# Altium integrated library Linear Technology Power Management Power-Over-Ethernet (PoE) Interface Controllers.IntLib: 174 symbols (part 3 of 16)
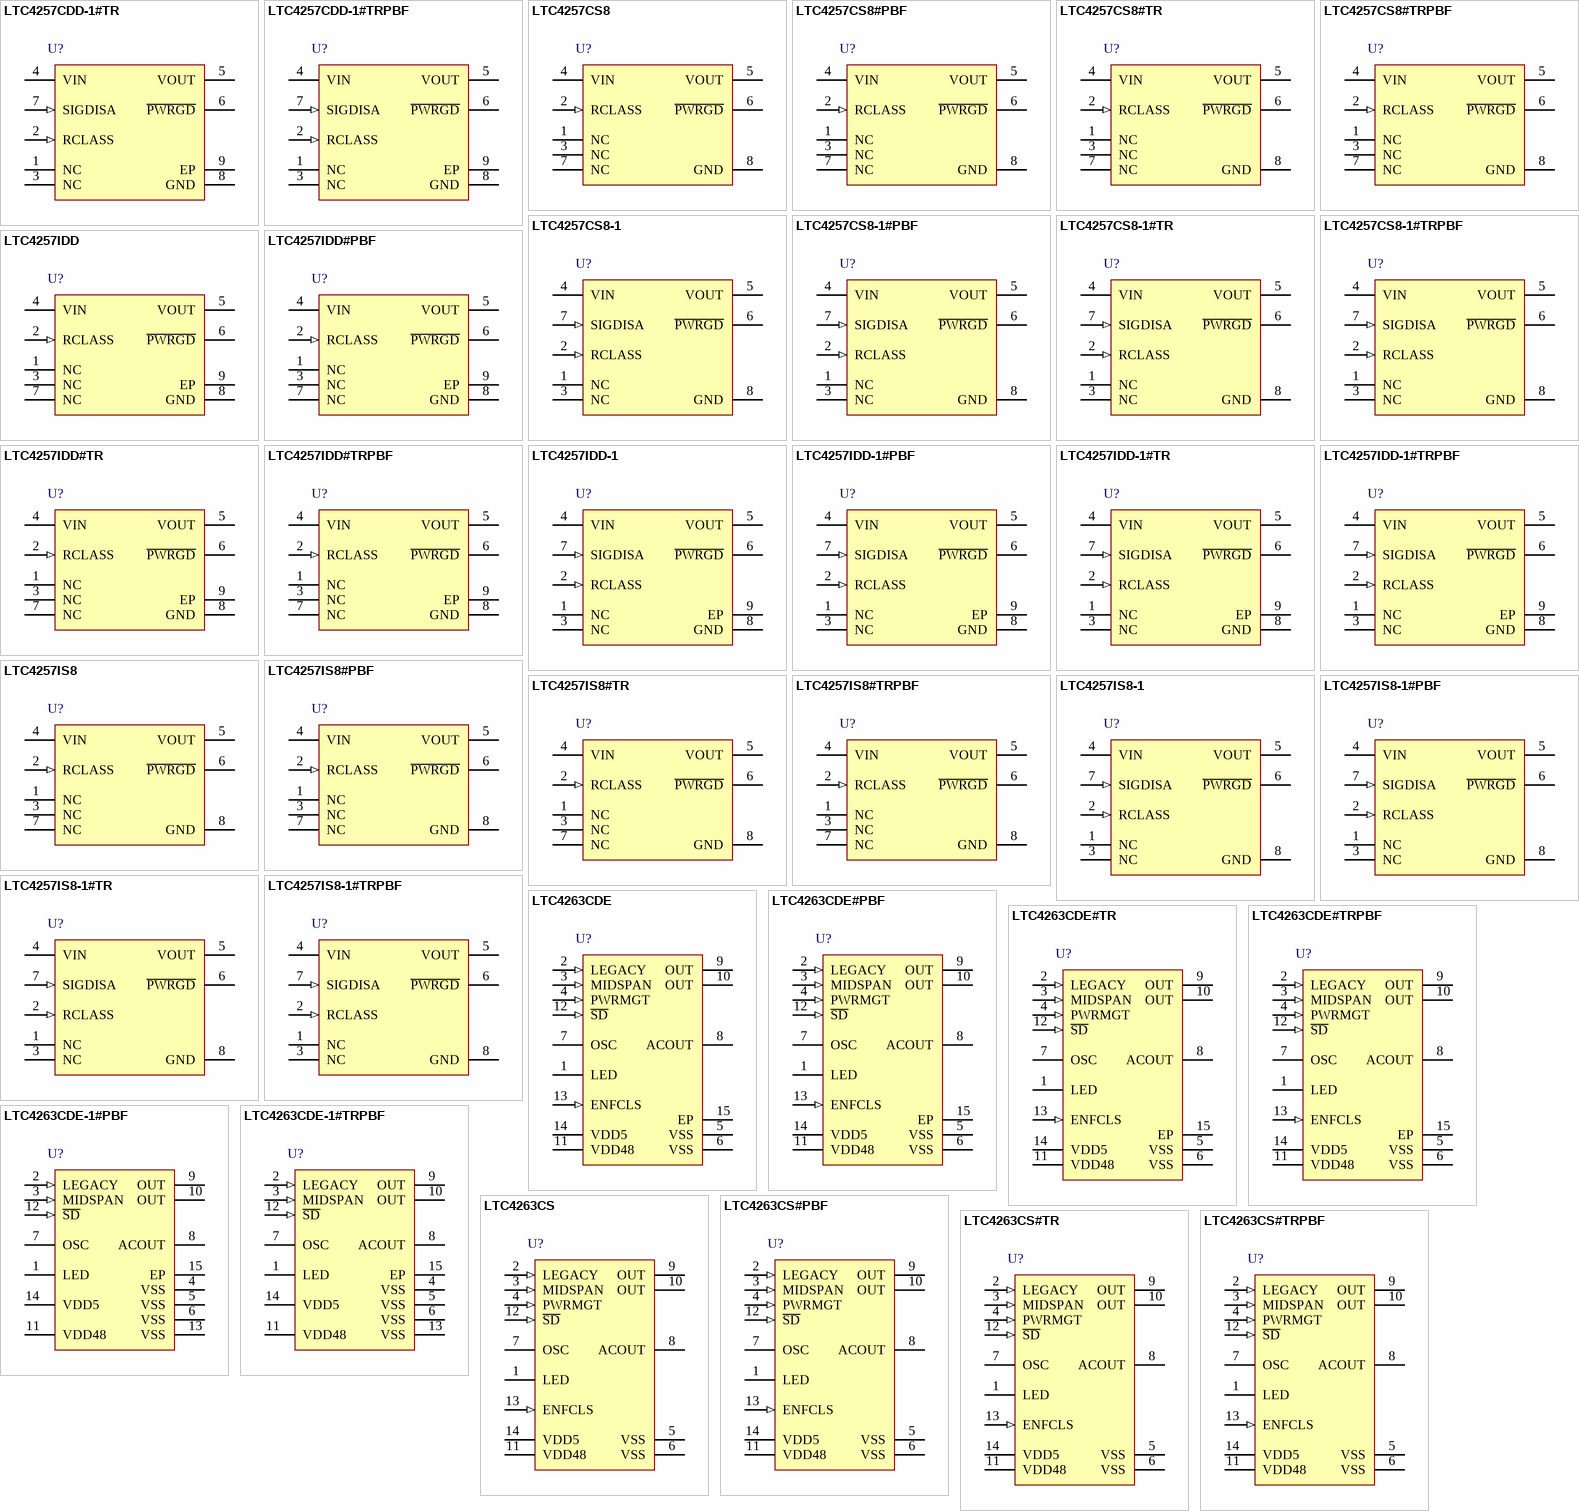
[diagram p10: symbols LTC4257CDD-1#TR to LTC4263CS#TRPBF]

## LTC4257CS8-1#TRPBF
designator U?
IEEE 802.3af PD Power Over Ethernet Interface Controller with Dual Current Limit, 8-pin SOIC (S8-8), 0 to 70 degC, Pb-Free, Tape and Reel; Manufacturer: Linear Technology; PartNumber: LTC4257CS8-1#TRPBF; Channels(#): 1; Extended Temp: C, I; I2C Interface: no; Max Power(W): 13; DatasheetVersion: Rev. B; PackageVersion: Rev. G, 03/2012; PackageReference: S8-8; PackageDescription: 8-Pin Plastic Small Outline (Narrow .150 Inch), Body 4.9 x 3.9 mm, Pitch 1.27 mm; Supplier 1: Digi-Key; Supplier Part Number 1: LTC4257CS8-1#TRPBF-ND; Packing: Tape and Reel; PoE Type: 1; PSE/PD: PD; RoHS: TRUE; Mounting Technology: Surface Mount; ComponentLink1Description: Manufacturer URL; ComponentLink1URL: http://www.linear.com/; ComponentLink2Description: Datasheet; ComponentLink2URL: http://cds.linear.com/docs/en/datasheet/42571fb.pdf; ComponentLink3Description: Package Specification; ComponentLink3URL: http://cds.linear.com/docs/en/packaging/05081610_G_SO8.pdf
footprint LT-S8-8_N (SOIC, 8-Leads, Body 5x4mm, Pitch 1.27mm, IPC Medium Density)
footprint LT-S8-8_L (SOIC, 8-Leads, Body 5x4mm, Pitch 1.27mm, IPC High Density)
footprint LT-S8-8_M (SOIC, 8-Leads, Body 5x4mm, Pitch 1.27mm, IPC Low Density)
pins: 1 NC "No Internal Connection.", 2 RCLASS (in) "Class Select Input. Used to set the current value the LTC4257-1 maintains during classification. Connect a resistor between RCLASS and VIN (see Table 2).", 3 NC "No Internal Connection.", 4 VIN (power) "Power Input. Tie to system -48V through the input diode bridge.", 5 VOUT (hiz) "Power Output. Supplies -48V to the PD load through an internal power MOSFET that limits input current. VOUT is high impedance until the input voltage rises above the turn-on UVLO threshold. Above the UVLO threshold the (See Datasheet)", 6 ~{PWRGD} (hiz) "Power Good Output, Open-Drain. Signals that the LTC4257 MOSFET is fully on. Low impedance indicates power is good. P\W\R\G\D\ is high impedance during detection, classification and in the event of a thermal overload. (See Datasheet)", 7 SIGDISA (in) "Signature Disable Input. Allows the PD to command the LTC4257-1 to present an invalid signature resistance and to remain inactive. Connecting SIGDISA to GND lowers the signature resistance to an invalid value and disables (See Datasheet)", 8 GND (power) "Ground. Tie to system ground and to power return through the input diode bridge."

## LTC4257IDD
designator U?
IEEE 802.3af PD Power Over Ethernet Interface Controller, 8-pin SON (DD-8), -40 to 85 degC; Manufacturer: Linear Technology; PartNumber: LTC4257IDD; Channels(#): 1; Extended Temp: C, I; I2C Interface: no; Max Power(W): 13; DatasheetVersion: Rev. B; PackageVersion: Jun-10; PackageReference: DD-8; PackageDescription: 8-Pin Plastic DFN, Body 3 x 3 mm, Pitch 0.5 mm; Supplier 1: Digi-Key; Supplier Part Number 1: LTC4257IDD-ND; PoE Type: 1; PSE/PD: PD; RoHS: FALSE; Mounting Technology: Surface Mount; Code_JEDEC: MO-229; ComponentLink1Description: Manufacturer URL; ComponentLink1URL: http://www.linear.com/; ComponentLink2Description: Datasheet; ComponentLink2URL: http://cds.linear.com/docs/en/datasheet/4257fb.pdf; ComponentLink3Description: Package Specification; ComponentLink3URL: http://cds.linear.com/docs/en/packaging/DFN_8_05-08-1698.pdf
footprint LT-DD-8_V (SON, 8-Leads, Body 3x3mm, Pitch 0.5mm, Thermal Pad 1.65x2.38 mm)
pins: 1 NC "No Connect.", 2 RCLASS (in) "External Class Select Input. Used to set the current the LTC4257 maintains during classification. Connect a resistor between RCLASS and VIN (see Table 2).", 3 NC "No Connect.", 4 VIN (power) "Power Input. Tie to system -48V through the input diode bridge.", 5 VOUT (hiz) "Power Output. Supplies -48V to the PD load through an internal power MOSFET that limits input current. VOUT is high impedance until the input voltage rises above the turn-on UVLO threshold. Above the UVLO threshold the (See Datasheet)", 6 ~{PWRGD} (hiz) "Power Good Output, Open-Drain. Signals that the LTC4257 MOSFET is fully on. Low impedance indicates power is good. P\W\R\G\D\ is high impedance during detection, classification and in the event of a thermal overload. (See Datasheet)", 7 NC "No Connect.", 8 GND (power) "Ground. Tie to system ground and to power return through the input diode bridge.", 9 EP

## LTC4257IDD#PBF
designator U?
IEEE 802.3af PD Power Over Ethernet Interface Controller, 8-pin SON (DD-8), -40 to 85 degC, Pb-Free; Manufacturer: Linear Technology; PartNumber: LTC4257IDD#PBF; Channels(#): 1; Extended Temp: C, I; I2C Interface: no; Max Power(W): 13; DatasheetVersion: Rev. B; PackageVersion: Jun-10; PackageReference: DD-8; PackageDescription: 8-Pin Plastic DFN, Body 3 x 3 mm, Pitch 0.5 mm; Supplier 1: Digi-Key; Supplier Part Number 1: LTC4257IDD#PBF-ND; Supplier 2: Newark; Supplier Part Number 2: 56M9080; PoE Type: 1; PSE/PD: PD; RoHS: TRUE; Mounting Technology: Surface Mount; Code_JEDEC: MO-229; ComponentLink1Description: Manufacturer URL; ComponentLink1URL: http://www.linear.com/; ComponentLink2Description: Datasheet; ComponentLink2URL: http://cds.linear.com/docs/en/datasheet/4257fb.pdf; ComponentLink3Description: Package Specification; ComponentLink3URL: http://cds.linear.com/docs/en/packaging/DFN_8_05-08-1698.pdf
footprint LT-DD-8_V (SON, 8-Leads, Body 3x3mm, Pitch 0.5mm, Thermal Pad 1.65x2.38 mm)
pins: 1 NC "No Connect.", 2 RCLASS (in) "External Class Select Input. Used to set the current the LTC4257 maintains during classification. Connect a resistor between RCLASS and VIN (see Table 2).", 3 NC "No Connect.", 4 VIN (power) "Power Input. Tie to system -48V through the input diode bridge.", 5 VOUT (hiz) "Power Output. Supplies -48V to the PD load through an internal power MOSFET that limits input current. VOUT is high impedance until the input voltage rises above the turn-on UVLO threshold. Above the UVLO threshold the (See Datasheet)", 6 ~{PWRGD} (hiz) "Power Good Output, Open-Drain. Signals that the LTC4257 MOSFET is fully on. Low impedance indicates power is good. P\W\R\G\D\ is high impedance during detection, classification and in the event of a thermal overload. (See Datasheet)", 7 NC "No Connect.", 8 GND (power) "Ground. Tie to system ground and to power return through the input diode bridge.", 9 EP

## LTC4257IDD#TR
designator U?
IEEE 802.3af PD Power Over Ethernet Interface Controller, 8-pin SON (DD-8), -40 to 85 degC, Tape and Reel; Manufacturer: Linear Technology; PartNumber: LTC4257IDD#TR; Channels(#): 1; Extended Temp: C, I; I2C Interface: no; Max Power(W): 13; DatasheetVersion: Rev. B; PackageVersion: Jun-10; PackageReference: DD-8; PackageDescription: 8-Pin Plastic DFN, Body 3 x 3 mm, Pitch 0.5 mm; Supplier 1: Digi-Key; Supplier Part Number 1: LTC4257IDD#TR-ND; Packing: Tape and Reel; PoE Type: 1; PSE/PD: PD; RoHS: FALSE; Mounting Technology: Surface Mount; Code_JEDEC: MO-229; ComponentLink1Description: Manufacturer URL; ComponentLink1URL: http://www.linear.com/; ComponentLink2Description: Datasheet; ComponentLink2URL: http://cds.linear.com/docs/en/datasheet/4257fb.pdf; ComponentLink3Description: Package Specification; ComponentLink3URL: http://cds.linear.com/docs/en/packaging/DFN_8_05-08-1698.pdf
footprint LT-DD-8_V (SON, 8-Leads, Body 3x3mm, Pitch 0.5mm, Thermal Pad 1.65x2.38 mm)
pins: 1 NC "No Connect.", 2 RCLASS (in) "External Class Select Input. Used to set the current the LTC4257 maintains during classification. Connect a resistor between RCLASS and VIN (see Table 2).", 3 NC "No Connect.", 4 VIN (power) "Power Input. Tie to system -48V through the input diode bridge.", 5 VOUT (hiz) "Power Output. Supplies -48V to the PD load through an internal power MOSFET that limits input current. VOUT is high impedance until the input voltage rises above the turn-on UVLO threshold. Above the UVLO threshold the (See Datasheet)", 6 ~{PWRGD} (hiz) "Power Good Output, Open-Drain. Signals that the LTC4257 MOSFET is fully on. Low impedance indicates power is good. P\W\R\G\D\ is high impedance during detection, classification and in the event of a thermal overload. (See Datasheet)", 7 NC "No Connect.", 8 GND (power) "Ground. Tie to system ground and to power return through the input diode bridge.", 9 EP

## LTC4257IDD#TRPBF
designator U?
IEEE 802.3af PD Power Over Ethernet Interface Controller, 8-pin SON (DD-8), -40 to 85 degC, Pb-Free, Tape and Reel; Manufacturer: Linear Technology; PartNumber: LTC4257IDD#TRPBF; Channels(#): 1; Extended Temp: C, I; I2C Interface: no; Max Power(W): 13; DatasheetVersion: Rev. B; PackageVersion: Jun-10; PackageReference: DD-8; PackageDescription: 8-Pin Plastic DFN, Body 3 x 3 mm, Pitch 0.5 mm; Supplier 1: Digi-Key; Supplier Part Number 1: LTC4257IDD#TRPBF-ND; Packing: Tape and Reel; PoE Type: 1; PSE/PD: PD; RoHS: TRUE; Mounting Technology: Surface Mount; Code_JEDEC: MO-229; ComponentLink1Description: Manufacturer URL; ComponentLink1URL: http://www.linear.com/; ComponentLink2Description: Datasheet; ComponentLink2URL: http://cds.linear.com/docs/en/datasheet/4257fb.pdf; ComponentLink3Description: Package Specification; ComponentLink3URL: http://cds.linear.com/docs/en/packaging/DFN_8_05-08-1698.pdf
footprint LT-DD-8_V (SON, 8-Leads, Body 3x3mm, Pitch 0.5mm, Thermal Pad 1.65x2.38 mm)
pins: 1 NC "No Connect.", 2 RCLASS (in) "External Class Select Input. Used to set the current the LTC4257 maintains during classification. Connect a resistor between RCLASS and VIN (see Table 2).", 3 NC "No Connect.", 4 VIN (power) "Power Input. Tie to system -48V through the input diode bridge.", 5 VOUT (hiz) "Power Output. Supplies -48V to the PD load through an internal power MOSFET that limits input current. VOUT is high impedance until the input voltage rises above the turn-on UVLO threshold. Above the UVLO threshold the (See Datasheet)", 6 ~{PWRGD} (hiz) "Power Good Output, Open-Drain. Signals that the LTC4257 MOSFET is fully on. Low impedance indicates power is good. P\W\R\G\D\ is high impedance during detection, classification and in the event of a thermal overload. (See Datasheet)", 7 NC "No Connect.", 8 GND (power) "Ground. Tie to system ground and to power return through the input diode bridge.", 9 EP

## LTC4257IDD-1
designator U?
IEEE 802.3af PD Power Over Ethernet Interface Controller with Dual Current Limit, 8-pin SON (DD-8), -40 to 85 degC; Manufacturer: Linear Technology; PartNumber: LTC4257IDD-1; Channels(#): 1; Extended Temp: C, I; I2C Interface: no; Max Power(W): 13; DatasheetVersion: Rev. B; PackageVersion: Jun-10; PackageReference: DD-8; PackageDescription: 8-Pin Plastic DFN, Body 3 x 3 mm, Pitch 0.5 mm; Supplier 1: Digi-Key; Supplier Part Number 1: LTC4257IDD-1-ND; PoE Type: 1; PSE/PD: PD; RoHS: FALSE; Mounting Technology: Surface Mount; Code_JEDEC: MO-229; ComponentLink1Description: Manufacturer URL; ComponentLink1URL: http://www.linear.com/; ComponentLink2Description: Datasheet; ComponentLink2URL: http://cds.linear.com/docs/en/datasheet/42571fb.pdf; ComponentLink3Description: Package Specification; ComponentLink3URL: http://cds.linear.com/docs/en/packaging/DFN_8_05-08-1698.pdf
footprint LT-DD-8_V (SON, 8-Leads, Body 3x3mm, Pitch 0.5mm, Thermal Pad 1.65x2.38 mm)
pins: 1 NC "No Internal Connection.", 2 RCLASS (in) "Class Select Input. Used to set the current value the LTC4257-1 maintains during classification. Connect a resistor between RCLASS and VIN (see Table 2).", 3 NC "No Internal Connection.", 4 VIN (power) "Power Input. Tie to system - 48V through the input diode bridge.", 5 VOUT (hiz) "Power Output. Supplies -48V to the PD load through an internal power MOSFET that limits input current. VOUT is high impedance until the input voltage rises above the turn-on UVLO threshold. Above the UVLO threshold the (See Datasheet)", 6 ~{PWRGD} (hiz) "Power Good Output, Open-Drain. Signals that the LTC4257-1 MOSFET is fully on. Low impedance indicates power is good. P\W\R\G\D\ is high impedance during detection, classification and in the event of a thermal overload. (See Datasheet)", 7 SIGDISA (in) "Signature Disable Input. Allows the PD to command the LTC4257-1 to present an invalid signature resistance and to remain inactive. Connecting SIGDISA to GND lowers the signature resistance to an invalid value and disables (See Datasheet)", 8 GND (power) "Ground. Tie to system ground and to power return through the input diode bridge.", 9 EP

## LTC4257IDD-1#PBF
designator U?
IEEE 802.3af PD Power Over Ethernet Interface Controller with Dual Current Limit, 8-pin SON (DD-8), -40 to 85 degC, Pb-Free; Manufacturer: Linear Technology; PartNumber: LTC4257IDD-1#PBF; Channels(#): 1; Extended Temp: C, I; I2C Interface: no; Max Power(W): 13; DatasheetVersion: Rev. B; PackageVersion: Jun-10; PackageReference: DD-8; PackageDescription: 8-Pin Plastic DFN, Body 3 x 3 mm, Pitch 0.5 mm; Supplier 1: Digi-Key; Supplier Part Number 1: LTC4257IDD-1#PBF-ND; PoE Type: 1; PSE/PD: PD; RoHS: TRUE; Mounting Technology: Surface Mount; Code_JEDEC: MO-229; ComponentLink1Description: Manufacturer URL; ComponentLink1URL: http://www.linear.com/; ComponentLink2Description: Datasheet; ComponentLink2URL: http://cds.linear.com/docs/en/datasheet/42571fb.pdf; ComponentLink3Description: Package Specification; ComponentLink3URL: http://cds.linear.com/docs/en/packaging/DFN_8_05-08-1698.pdf
footprint LT-DD-8_V (SON, 8-Leads, Body 3x3mm, Pitch 0.5mm, Thermal Pad 1.65x2.38 mm)
pins: 1 NC "No Internal Connection.", 2 RCLASS (in) "Class Select Input. Used to set the current value the LTC4257-1 maintains during classification. Connect a resistor between RCLASS and VIN (see Table 2).", 3 NC "No Internal Connection.", 4 VIN (power) "Power Input. Tie to system - 48V through the input diode bridge.", 5 VOUT (hiz) "Power Output. Supplies -48V to the PD load through an internal power MOSFET that limits input current. VOUT is high impedance until the input voltage rises above the turn-on UVLO threshold. Above the UVLO threshold the (See Datasheet)", 6 ~{PWRGD} (hiz) "Power Good Output, Open-Drain. Signals that the LTC4257-1 MOSFET is fully on. Low impedance indicates power is good. P\W\R\G\D\ is high impedance during detection, classification and in the event of a thermal overload. (See Datasheet)", 7 SIGDISA (in) "Signature Disable Input. Allows the PD to command the LTC4257-1 to present an invalid signature resistance and to remain inactive. Connecting SIGDISA to GND lowers the signature resistance to an invalid value and disables (See Datasheet)", 8 GND (power) "Ground. Tie to system ground and to power return through the input diode bridge.", 9 EP

## LTC4257IDD-1#TR
designator U?
IEEE 802.3af PD Power Over Ethernet Interface Controller with Dual Current Limit, 8-pin SON (DD-8), -40 to 85 degC, Tape and Reel; Manufacturer: Linear Technology; PartNumber: LTC4257IDD-1#TR; Channels(#): 1; Extended Temp: C, I; I2C Interface: no; Max Power(W): 13; DatasheetVersion: Rev. B; PackageVersion: Jun-10; PackageReference: DD-8; PackageDescription: 8-Pin Plastic DFN, Body 3 x 3 mm, Pitch 0.5 mm; Supplier 1: Digi-Key; Supplier Part Number 1: LTC4257IDD-1#TR-ND; Packing: Tape and Reel; PoE Type: 1; PSE/PD: PD; RoHS: FALSE; Mounting Technology: Surface Mount; Code_JEDEC: MO-229; ComponentLink1Description: Manufacturer URL; ComponentLink1URL: http://www.linear.com/; ComponentLink2Description: Datasheet; ComponentLink2URL: http://cds.linear.com/docs/en/datasheet/42571fb.pdf; ComponentLink3Description: Package Specification; ComponentLink3URL: http://cds.linear.com/docs/en/packaging/DFN_8_05-08-1698.pdf
footprint LT-DD-8_V (SON, 8-Leads, Body 3x3mm, Pitch 0.5mm, Thermal Pad 1.65x2.38 mm)
pins: 1 NC "No Internal Connection.", 2 RCLASS (in) "Class Select Input. Used to set the current value the LTC4257-1 maintains during classification. Connect a resistor between RCLASS and VIN (see Table 2).", 3 NC "No Internal Connection.", 4 VIN (power) "Power Input. Tie to system - 48V through the input diode bridge.", 5 VOUT (hiz) "Power Output. Supplies -48V to the PD load through an internal power MOSFET that limits input current. VOUT is high impedance until the input voltage rises above the turn-on UVLO threshold. Above the UVLO threshold the (See Datasheet)", 6 ~{PWRGD} (hiz) "Power Good Output, Open-Drain. Signals that the LTC4257-1 MOSFET is fully on. Low impedance indicates power is good. P\W\R\G\D\ is high impedance during detection, classification and in the event of a thermal overload. (See Datasheet)", 7 SIGDISA (in) "Signature Disable Input. Allows the PD to command the LTC4257-1 to present an invalid signature resistance and to remain inactive. Connecting SIGDISA to GND lowers the signature resistance to an invalid value and disables (See Datasheet)", 8 GND (power) "Ground. Tie to system ground and to power return through the input diode bridge.", 9 EP

## LTC4257IDD-1#TRPBF
designator U?
IEEE 802.3af PD Power Over Ethernet Interface Controller with Dual Current Limit, 8-pin SON (DD-8), -40 to 85 degC, Pb-Free, Tape and Reel; Manufacturer: Linear Technology; PartNumber: LTC4257IDD-1#TRPBF; Channels(#): 1; Extended Temp: C, I; I2C Interface: no; Max Power(W): 13; DatasheetVersion: Rev. B; PackageVersion: Jun-10; PackageReference: DD-8; PackageDescription: 8-Pin Plastic DFN, Body 3 x 3 mm, Pitch 0.5 mm; Supplier 1: Digi-Key; Supplier Part Number 1: LTC4257IDD-1#TRPBF-ND; Packing: Tape and Reel; PoE Type: 1; PSE/PD: PD; RoHS: TRUE; Mounting Technology: Surface Mount; Code_JEDEC: MO-229; ComponentLink1Description: Manufacturer URL; ComponentLink1URL: http://www.linear.com/; ComponentLink2Description: Datasheet; ComponentLink2URL: http://cds.linear.com/docs/en/datasheet/42571fb.pdf; ComponentLink3Description: Package Specification; ComponentLink3URL: http://cds.linear.com/docs/en/packaging/DFN_8_05-08-1698.pdf
footprint LT-DD-8_V (SON, 8-Leads, Body 3x3mm, Pitch 0.5mm, Thermal Pad 1.65x2.38 mm)
pins: 1 NC "No Internal Connection.", 2 RCLASS (in) "Class Select Input. Used to set the current value the LTC4257-1 maintains during classification. Connect a resistor between RCLASS and VIN (see Table 2).", 3 NC "No Internal Connection.", 4 VIN (power) "Power Input. Tie to system - 48V through the input diode bridge.", 5 VOUT (hiz) "Power Output. Supplies -48V to the PD load through an internal power MOSFET that limits input current. VOUT is high impedance until the input voltage rises above the turn-on UVLO threshold. Above the UVLO threshold the (See Datasheet)", 6 ~{PWRGD} (hiz) "Power Good Output, Open-Drain. Signals that the LTC4257-1 MOSFET is fully on. Low impedance indicates power is good. P\W\R\G\D\ is high impedance during detection, classification and in the event of a thermal overload. (See Datasheet)", 7 SIGDISA (in) "Signature Disable Input. Allows the PD to command the LTC4257-1 to present an invalid signature resistance and to remain inactive. Connecting SIGDISA to GND lowers the signature resistance to an invalid value and disables (See Datasheet)", 8 GND (power) "Ground. Tie to system ground and to power return through the input diode bridge.", 9 EP

## LTC4257IS8
designator U?
IEEE 802.3af PD Power Over Ethernet Interface Controller, 8-pin SOIC (S8-8), -40 to 85 degC; Manufacturer: Linear Technology; PartNumber: LTC4257IS8; Channels(#): 1; Extended Temp: C, I; I2C Interface: no; Max Power(W): 13; DatasheetVersion: Rev. B; PackageVersion: Rev. G, 03/2012; PackageReference: S8-8; PackageDescription: 8-Pin Plastic Small Outline (Narrow .150 Inch), Body 4.9 x 3.9 mm, Pitch 1.27 mm; Supplier 1: Digi-Key; Supplier Part Number 1: LTC4257IS8-ND; PoE Type: 1; PSE/PD: PD; RoHS: FALSE; Mounting Technology: Surface Mount; ComponentLink1Description: Manufacturer URL; ComponentLink1URL: http://www.linear.com/; ComponentLink2Description: Datasheet; ComponentLink2URL: http://cds.linear.com/docs/en/datasheet/4257fb.pdf; ComponentLink3Description: Package Specification; ComponentLink3URL: http://cds.linear.com/docs/en/packaging/05081610_G_SO8.pdf
footprint LT-S8-8_N (SOIC, 8-Leads, Body 5x4mm, Pitch 1.27mm, IPC Medium Density)
footprint LT-S8-8_L (SOIC, 8-Leads, Body 5x4mm, Pitch 1.27mm, IPC High Density)
footprint LT-S8-8_M (SOIC, 8-Leads, Body 5x4mm, Pitch 1.27mm, IPC Low Density)
pins: 1 NC "No Connect.", 2 RCLASS (in) "External Class Select Input. Used to set the current the LTC4257 maintains during classification. Connect a resistor between RCLASS and VIN (see Table 2).", 3 NC "No Connect.", 4 VIN (power) "Power Input. Tie to system - 48V through the input diode bridge.", 5 VOUT (hiz) "Power Output. Supplies -48V to the PD load through an internal power MOSFET that limits input current. VOUT is high impedance until the input voltage rises above the turn-on UVLO threshold. Above the UVLO threshold the (See Datasheet)", 6 ~{PWRGD} (hiz) "Power Good Output, Open-Drain. Signals that the LTC4257 MOSFET is fully on. Low impedance indicates power is good. P\W\R\G\D\ is high impedance during detection, classification and in the event of a thermal overload. (See Datasheet)", 7 NC "No Connect.", 8 GND (power) "Ground. Tie to system ground and to power return through the input diode bridge."

## LTC4257IS8#PBF
designator U?
IEEE 802.3af PD Power Over Ethernet Interface Controller, 8-pin SOIC (S8-8), -40 to 85 degC, Pb-Free; Manufacturer: Linear Technology; PartNumber: LTC4257IS8#PBF; Channels(#): 1; Extended Temp: C, I; I2C Interface: no; Max Power(W): 13; DatasheetVersion: Rev. B; PackageVersion: Rev. G, 03/2012; PackageReference: S8-8; PackageDescription: 8-Pin Plastic Small Outline (Narrow .150 Inch), Body 4.9 x 3.9 mm, Pitch 1.27 mm; Supplier 1: Digi-Key; Supplier Part Number 1: LTC4257IS8#PBF-ND; Supplier 2: Farnell; Supplier Part Number 2: 1663729; Supplier 3: Newark; Supplier Part Number 3: 56M9088; PoE Type: 1; PSE/PD: PD; RoHS: TRUE; Mounting Technology: Surface Mount; ComponentLink1Description: Manufacturer URL; ComponentLink1URL: http://www.linear.com/; ComponentLink2Description: Datasheet; ComponentLink2URL: http://cds.linear.com/docs/en/datasheet/4257fb.pdf; ComponentLink3Description: Package Specification; ComponentLink3URL: http://cds.linear.com/docs/en/packaging/05081610_G_SO8.pdf
footprint LT-S8-8_N (SOIC, 8-Leads, Body 5x4mm, Pitch 1.27mm, IPC Medium Density)
footprint LT-S8-8_L (SOIC, 8-Leads, Body 5x4mm, Pitch 1.27mm, IPC High Density)
footprint LT-S8-8_M (SOIC, 8-Leads, Body 5x4mm, Pitch 1.27mm, IPC Low Density)
pins: 1 NC "No Connect.", 2 RCLASS (in) "External Class Select Input. Used to set the current the LTC4257 maintains during classification. Connect a resistor between RCLASS and VIN (see Table 2).", 3 NC "No Connect.", 4 VIN (power) "Power Input. Tie to system - 48V through the input diode bridge.", 5 VOUT (hiz) "Power Output. Supplies -48V to the PD load through an internal power MOSFET that limits input current. VOUT is high impedance until the input voltage rises above the turn-on UVLO threshold. Above the UVLO threshold the (See Datasheet)", 6 ~{PWRGD} (hiz) "Power Good Output, Open-Drain. Signals that the LTC4257 MOSFET is fully on. Low impedance indicates power is good. P\W\R\G\D\ is high impedance during detection, classification and in the event of a thermal overload. (See Datasheet)", 7 NC "No Connect.", 8 GND (power) "Ground. Tie to system ground and to power return through the input diode bridge."

## LTC4257IS8#TR
designator U?
IEEE 802.3af PD Power Over Ethernet Interface Controller, 8-pin SOIC (S8-8), -40 to 85 degC, Tape and Reel; Manufacturer: Linear Technology; PartNumber: LTC4257IS8#TR; Channels(#): 1; Extended Temp: C, I; I2C Interface: no; Max Power(W): 13; DatasheetVersion: Rev. B; PackageVersion: Rev. G, 03/2012; PackageReference: S8-8; PackageDescription: 8-Pin Plastic Small Outline (Narrow .150 Inch), Body 4.9 x 3.9 mm, Pitch 1.27 mm; Supplier 1: Digi-Key; Supplier Part Number 1: LTC4257IS8#TR-ND; Packing: Tape and Reel; PoE Type: 1; PSE/PD: PD; RoHS: FALSE; Mounting Technology: Surface Mount; ComponentLink1Description: Manufacturer URL; ComponentLink1URL: http://www.linear.com/; ComponentLink2Description: Datasheet; ComponentLink2URL: http://cds.linear.com/docs/en/datasheet/4257fb.pdf; ComponentLink3Description: Package Specification; ComponentLink3URL: http://cds.linear.com/docs/en/packaging/05081610_G_SO8.pdf
footprint LT-S8-8_N (SOIC, 8-Leads, Body 5x4mm, Pitch 1.27mm, IPC Medium Density)
footprint LT-S8-8_L (SOIC, 8-Leads, Body 5x4mm, Pitch 1.27mm, IPC High Density)
footprint LT-S8-8_M (SOIC, 8-Leads, Body 5x4mm, Pitch 1.27mm, IPC Low Density)
pins: 1 NC "No Connect.", 2 RCLASS (in) "External Class Select Input. Used to set the current the LTC4257 maintains during classification. Connect a resistor between RCLASS and VIN (see Table 2).", 3 NC "No Connect.", 4 VIN (power) "Power Input. Tie to system - 48V through the input diode bridge.", 5 VOUT (hiz) "Power Output. Supplies -48V to the PD load through an internal power MOSFET that limits input current. VOUT is high impedance until the input voltage rises above the turn-on UVLO threshold. Above the UVLO threshold the (See Datasheet)", 6 ~{PWRGD} (hiz) "Power Good Output, Open-Drain. Signals that the LTC4257 MOSFET is fully on. Low impedance indicates power is good. P\W\R\G\D\ is high impedance during detection, classification and in the event of a thermal overload. (See Datasheet)", 7 NC "No Connect.", 8 GND (power) "Ground. Tie to system ground and to power return through the input diode bridge."

## LTC4257IS8#TRPBF
designator U?
IEEE 802.3af PD Power Over Ethernet Interface Controller, 8-pin SOIC (S8-8), -40 to 85 degC, Pb-Free, Tape and Reel; Manufacturer: Linear Technology; PartNumber: LTC4257IS8#TRPBF; Channels(#): 1; Extended Temp: C, I; I2C Interface: no; Max Power(W): 13; DatasheetVersion: Rev. B; PackageVersion: Rev. G, 03/2012; PackageReference: S8-8; PackageDescription: 8-Pin Plastic Small Outline (Narrow .150 Inch), Body 4.9 x 3.9 mm, Pitch 1.27 mm; Supplier 1: Digi-Key; Supplier Part Number 1: LTC4257IS8#TRPBF-ND; Supplier 2: Newark; Supplier Part Number 2: 56M9090; Packing: Tape and Reel; PoE Type: 1; PSE/PD: PD; RoHS: TRUE; Mounting Technology: Surface Mount; ComponentLink1Description: Manufacturer URL; ComponentLink1URL: http://www.linear.com/; ComponentLink2Description: Datasheet; ComponentLink2URL: http://cds.linear.com/docs/en/datasheet/4257fb.pdf; ComponentLink3Description: Package Specification; ComponentLink3URL: http://cds.linear.com/docs/en/packaging/05081610_G_SO8.pdf
footprint LT-S8-8_N (SOIC, 8-Leads, Body 5x4mm, Pitch 1.27mm, IPC Medium Density)
footprint LT-S8-8_L (SOIC, 8-Leads, Body 5x4mm, Pitch 1.27mm, IPC High Density)
footprint LT-S8-8_M (SOIC, 8-Leads, Body 5x4mm, Pitch 1.27mm, IPC Low Density)
pins: 1 NC "No Connect.", 2 RCLASS (in) "External Class Select Input. Used to set the current the LTC4257 maintains during classification. Connect a resistor between RCLASS and VIN (see Table 2).", 3 NC "No Connect.", 4 VIN (power) "Power Input. Tie to system - 48V through the input diode bridge.", 5 VOUT (hiz) "Power Output. Supplies -48V to the PD load through an internal power MOSFET that limits input current. VOUT is high impedance until the input voltage rises above the turn-on UVLO threshold. Above the UVLO threshold the (See Datasheet)", 6 ~{PWRGD} (hiz) "Power Good Output, Open-Drain. Signals that the LTC4257 MOSFET is fully on. Low impedance indicates power is good. P\W\R\G\D\ is high impedance during detection, classification and in the event of a thermal overload. (See Datasheet)", 7 NC "No Connect.", 8 GND (power) "Ground. Tie to system ground and to power return through the input diode bridge."

## LTC4257IS8-1
designator U?
IEEE 802.3af PD Power Over Ethernet Interface Controller with Dual Current Limit, 8-pin SOIC (S8-8), -40 to 85 degC; Manufacturer: Linear Technology; PartNumber: LTC4257IS8-1; Channels(#): 1; Extended Temp: C, I; I2C Interface: no; Max Power(W): 13; DatasheetVersion: Rev. B; PackageVersion: Rev. G, 03/2012; PackageReference: S8-8; PackageDescription: 8-Pin Plastic Small Outline (Narrow .150 Inch), Body 4.9 x 3.9 mm, Pitch 1.27 mm; Supplier 1: Digi-Key; Supplier Part Number 1: LTC4257IS8-1-ND; PoE Type: 1; PSE/PD: PD; RoHS: FALSE; Mounting Technology: Surface Mount; ComponentLink1Description: Manufacturer URL; ComponentLink1URL: http://www.linear.com/; ComponentLink2Description: Datasheet; ComponentLink2URL: http://cds.linear.com/docs/en/datasheet/42571fb.pdf; ComponentLink3Description: Package Specification; ComponentLink3URL: http://cds.linear.com/docs/en/packaging/05081610_G_SO8.pdf
footprint LT-S8-8_N (SOIC, 8-Leads, Body 5x4mm, Pitch 1.27mm, IPC Medium Density)
footprint LT-S8-8_L (SOIC, 8-Leads, Body 5x4mm, Pitch 1.27mm, IPC High Density)
footprint LT-S8-8_M (SOIC, 8-Leads, Body 5x4mm, Pitch 1.27mm, IPC Low Density)
pins: 1 NC "No Internal Connection.", 2 RCLASS (in) "Class Select Input. Used to set the current value the LTC4257-1 maintains during classification. Connect a resistor between RCLASS and VIN (see Table 2).", 3 NC "No Internal Connection.", 4 VIN (power) "Power Input. Tie to system -48V through the input diode bridge.", 5 VOUT (hiz) "Power Output. Supplies -48V to the PD load through an internal power MOSFET that limits input current. VOUT is high impedance until the input voltage rises above the turn-on UVLO threshold. Above the UVLO threshold the (See Datasheet)", 6 ~{PWRGD} (hiz) "Power Good Output, Open-Drain. Signals that the LTC4257 MOSFET is fully on. Low impedance indicates power is good. P\W\R\G\D\ is high impedance during detection, classification and in the event of a thermal overload. (See Datasheet)", 7 SIGDISA (in) "Signature Disable Input. Allows the PD to command the LTC4257-1 to present an invalid signature resistance and to remain inactive. Connecting SIGDISA to GND lowers the signature resistance to an invalid value and disables (See Datasheet)", 8 GND (power) "Ground. Tie to system ground and to power return through the input diode bridge."

## LTC4257IS8-1#PBF
designator U?
IEEE 802.3af PD Power Over Ethernet Interface Controller with Dual Current Limit, 8-pin SOIC (S8-8), -40 to 85 degC, Pb-Free; Manufacturer: Linear Technology; PartNumber: LTC4257IS8-1#PBF; Channels(#): 1; Extended Temp: C, I; I2C Interface: no; Max Power(W): 13; DatasheetVersion: Rev. B; PackageVersion: Rev. G, 03/2012; PackageReference: S8-8; PackageDescription: 8-Pin Plastic Small Outline (Narrow .150 Inch), Body 4.9 x 3.9 mm, Pitch 1.27 mm; Supplier 1: Digi-Key; Supplier Part Number 1: LTC4257IS8-1#PBF-ND; PoE Type: 1; PSE/PD: PD; RoHS: TRUE; Mounting Technology: Surface Mount; ComponentLink1Description: Manufacturer URL; ComponentLink1URL: http://www.linear.com/; ComponentLink2Description: Datasheet; ComponentLink2URL: http://cds.linear.com/docs/en/datasheet/42571fb.pdf; ComponentLink3Description: Package Specification; ComponentLink3URL: http://cds.linear.com/docs/en/packaging/05081610_G_SO8.pdf
footprint LT-S8-8_N (SOIC, 8-Leads, Body 5x4mm, Pitch 1.27mm, IPC Medium Density)
footprint LT-S8-8_L (SOIC, 8-Leads, Body 5x4mm, Pitch 1.27mm, IPC High Density)
footprint LT-S8-8_M (SOIC, 8-Leads, Body 5x4mm, Pitch 1.27mm, IPC Low Density)
pins: 1 NC "No Internal Connection.", 2 RCLASS (in) "Class Select Input. Used to set the current value the LTC4257-1 maintains during classification. Connect a resistor between RCLASS and VIN (see Table 2).", 3 NC "No Internal Connection.", 4 VIN (power) "Power Input. Tie to system -48V through the input diode bridge.", 5 VOUT (hiz) "Power Output. Supplies -48V to the PD load through an internal power MOSFET that limits input current. VOUT is high impedance until the input voltage rises above the turn-on UVLO threshold. Above the UVLO threshold the (See Datasheet)", 6 ~{PWRGD} (hiz) "Power Good Output, Open-Drain. Signals that the LTC4257 MOSFET is fully on. Low impedance indicates power is good. P\W\R\G\D\ is high impedance during detection, classification and in the event of a thermal overload. (See Datasheet)", 7 SIGDISA (in) "Signature Disable Input. Allows the PD to command the LTC4257-1 to present an invalid signature resistance and to remain inactive. Connecting SIGDISA to GND lowers the signature resistance to an invalid value and disables (See Datasheet)", 8 GND (power) "Ground. Tie to system ground and to power return through the input diode bridge."

## LTC4257IS8-1#TR
designator U?
IEEE 802.3af PD Power Over Ethernet Interface Controller with Dual Current Limit, 8-pin SOIC (S8-8), -40 to 85 degC, Tape and Reel; Manufacturer: Linear Technology; PartNumber: LTC4257IS8-1#TR; Channels(#): 1; Extended Temp: C, I; I2C Interface: no; Max Power(W): 13; DatasheetVersion: Rev. B; PackageVersion: Rev. G, 03/2012; PackageReference: S8-8; PackageDescription: 8-Pin Plastic Small Outline (Narrow .150 Inch), Body 4.9 x 3.9 mm, Pitch 1.27 mm; Supplier 1: Digi-Key; Supplier Part Number 1: LTC4257IS8-1#TR-ND; Packing: Tape and Reel; PoE Type: 1; PSE/PD: PD; RoHS: FALSE; Mounting Technology: Surface Mount; ComponentLink1Description: Manufacturer URL; ComponentLink1URL: http://www.linear.com/; ComponentLink2Description: Datasheet; ComponentLink2URL: http://cds.linear.com/docs/en/datasheet/42571fb.pdf; ComponentLink3Description: Package Specification; ComponentLink3URL: http://cds.linear.com/docs/en/packaging/05081610_G_SO8.pdf
footprint LT-S8-8_N (SOIC, 8-Leads, Body 5x4mm, Pitch 1.27mm, IPC Medium Density)
footprint LT-S8-8_L (SOIC, 8-Leads, Body 5x4mm, Pitch 1.27mm, IPC High Density)
footprint LT-S8-8_M (SOIC, 8-Leads, Body 5x4mm, Pitch 1.27mm, IPC Low Density)
pins: 1 NC "No Internal Connection.", 2 RCLASS (in) "Class Select Input. Used to set the current value the LTC4257-1 maintains during classification. Connect a resistor between RCLASS and VIN (see Table 2).", 3 NC "No Internal Connection.", 4 VIN (power) "Power Input. Tie to system -48V through the input diode bridge.", 5 VOUT (hiz) "Power Output. Supplies -48V to the PD load through an internal power MOSFET that limits input current. VOUT is high impedance until the input voltage rises above the turn-on UVLO threshold. Above the UVLO threshold the (See Datasheet)", 6 ~{PWRGD} (hiz) "Power Good Output, Open-Drain. Signals that the LTC4257 MOSFET is fully on. Low impedance indicates power is good. P\W\R\G\D\ is high impedance during detection, classification and in the event of a thermal overload. (See Datasheet)", 7 SIGDISA (in) "Signature Disable Input. Allows the PD to command the LTC4257-1 to present an invalid signature resistance and to remain inactive. Connecting SIGDISA to GND lowers the signature resistance to an invalid value and disables (See Datasheet)", 8 GND (power) "Ground. Tie to system ground and to power return through the input diode bridge."

## LTC4257IS8-1#TRPBF
designator U?
IEEE 802.3af PD Power Over Ethernet Interface Controller with Dual Current Limit, 8-pin SOIC (S8-8), -40 to 85 degC, Pb-Free, Tape and Reel; Manufacturer: Linear Technology; PartNumber: LTC4257IS8-1#TRPBF; Channels(#): 1; Extended Temp: C, I; I2C Interface: no; Max Power(W): 13; DatasheetVersion: Rev. B; PackageVersion: Rev. G, 03/2012; PackageReference: S8-8; PackageDescription: 8-Pin Plastic Small Outline (Narrow .150 Inch), Body 4.9 x 3.9 mm, Pitch 1.27 mm; Supplier 1: Digi-Key; Supplier Part Number 1: LTC4257IS8-1#TRPBF-ND; Packing: Tape and Reel; PoE Type: 1; PSE/PD: PD; RoHS: TRUE; Mounting Technology: Surface Mount; ComponentLink1Description: Manufacturer URL; ComponentLink1URL: http://www.linear.com/; ComponentLink2Description: Datasheet; ComponentLink2URL: http://cds.linear.com/docs/en/datasheet/42571fb.pdf; ComponentLink3Description: Package Specification; ComponentLink3URL: http://cds.linear.com/docs/en/packaging/05081610_G_SO8.pdf
footprint LT-S8-8_N (SOIC, 8-Leads, Body 5x4mm, Pitch 1.27mm, IPC Medium Density)
footprint LT-S8-8_L (SOIC, 8-Leads, Body 5x4mm, Pitch 1.27mm, IPC High Density)
footprint LT-S8-8_M (SOIC, 8-Leads, Body 5x4mm, Pitch 1.27mm, IPC Low Density)
pins: 1 NC "No Internal Connection.", 2 RCLASS (in) "Class Select Input. Used to set the current value the LTC4257-1 maintains during classification. Connect a resistor between RCLASS and VIN (see Table 2).", 3 NC "No Internal Connection.", 4 VIN (power) "Power Input. Tie to system -48V through the input diode bridge.", 5 VOUT (hiz) "Power Output. Supplies -48V to the PD load through an internal power MOSFET that limits input current. VOUT is high impedance until the input voltage rises above the turn-on UVLO threshold. Above the UVLO threshold the (See Datasheet)", 6 ~{PWRGD} (hiz) "Power Good Output, Open-Drain. Signals that the LTC4257 MOSFET is fully on. Low impedance indicates power is good. P\W\R\G\D\ is high impedance during detection, classification and in the event of a thermal overload. (See Datasheet)", 7 SIGDISA (in) "Signature Disable Input. Allows the PD to command the LTC4257-1 to present an invalid signature resistance and to remain inactive. Connecting SIGDISA to GND lowers the signature resistance to an invalid value and disables (See Datasheet)", 8 GND (power) "Ground. Tie to system ground and to power return through the input diode bridge."

## LTC4263CDE
designator U?
Single IEEE 802.3af Compliant PSE Controller with Internal Switch, 14-pin SON (DE-14), 0 to 70 degC; Manufacturer: Linear Technology; PartNumber: LTC4263CDE; Channels(#): 1; Extended Temp: C, I; I2C Interface: no; Max Power(W): 12.95; DatasheetVersion: Rev. E; PackageVersion: Rev. B, 06/2010; PackageReference: DE-14; PackageDescription: 14-Pin Plastic DFN, Body 4 x 3 mm, Pitch 0.5 mm; PoE Type: 1; PSE/PD: PSE; RoHS: FALSE; Mounting Technology: Surface Mount; Code_JEDEC: MO-229; ComponentLink1Description: Manufacturer URL; ComponentLink1URL: http://www.linear.com/; ComponentLink2Description: Datasheet; ComponentLink2URL: http://cds.linear.com/docs/en/datasheet/4263fe.pdf; ComponentLink3Description: Package Specification; ComponentLink3URL: http://www.linear.com/docs/en/packaging/DFN_14_05-08-1708.pdf
footprint LT-DE-14_V (SON, 14-Leads, Body 4x3mm, Pitch 0.5mm, Thermal Pad 3.3x1.7mm)
pins: 1 LED (oc) "Port State LED Drive. This pin is an open drain output that pulls down when the port is powered. Under port fault conditions, the LED will fl ash in patterns to indicate the nature of the port fault. See the Applications (See Datasheet)", 2 LEGACY (in) "Legacy Detect. This pin controls whether legacy detect is enabled. If held at VDD5, legacy detect is enabled and testing for a large capacitor is performed to detect the presence of a legacy PD on the port.", 3 MIDSPAN (in) "Midspan Enable. If this pin is connected to VDD5, Midspan backoff is enabled and a 3.2 second delay occurs after every failed detect cycle unless the result is open circuit. If held at VSS, no delay occurs after failed (See Datasheet)", 4 PWRMGT (in) "Power Management. The LTC4263 sources current at the PWRMGT pin proportional to the class of the PD that it is powering.", 5 VSS (power) "Negative 48V Supply. Pins 5 and 6 should be tied together on the PCB.", 6 VSS (power) "Negative 48V Supply. Pins 5 and 6 should be tied together on the PCB.", 7 OSC "Oscillator for AC Disconnect. If AC disconnect is used, connect a 0.1uF X7R capacitor from OSC to VSS. Tie OSC to VSS to disable AC disconnect and enable DC disconnect.", 8 ACOUT "AC Disconnect Sense. Senses the port to determine whether a PD is still connected when in AC disconnect mode.", 9 OUT "Port Output. If DC disconnect is used, these pins are connected to the port. If AC disconnect is used, these pins are connected to the port through a parallel combination of a 1A diode and a 500k resistor. Pins 9 and 10 (See Datasheet)", 10 OUT "Port Output. If DC disconnect is used, these pins are connected to the port. If AC disconnect is used, these pins are connected to the port through a parallel combination of a 1A diode and a 500k resistor. Pins 9 and 10 (See Datasheet)", 11 VDD48 (power) "48V Return. Must be bypassed with a 0.1uF capacitor to VSS.", 12 ~{SD} (in) "Shutdown. If held low, the LTC4263 is prevented from performing detection or powering the port. Pulling S\D\ low will turn off the port if it is powered. When released, a 4-second delay will occur before detection is (See Datasheet)", 13 ENFCLS (in) "Enforce Class Current Limits. If held at VDD5, the LTC4263 will reduce the ICUT threshold for class 1 or class 2 PDs. If ENFCLS is held at VSS, ICUT remains at 375mA (typ) for all classes.", 14 VDD5 (power) "Logic Power Supply.", 15 EP (power) "VSS. Must be connected to VSS on the PCB. The Exposed Pad acts as a heatsink for the internal MOSFET."

## LTC4263CDE#PBF
designator U?
Single IEEE 802.3af Compliant PSE Controller with Internal Switch, 14-pin SON (DE-14), 0 to 70 degC, Pb-Free; Manufacturer: Linear Technology; PartNumber: LTC4263CDE#PBF; Channels(#): 1; Extended Temp: C, I; I2C Interface: no; Max Power(W): 12.95; DatasheetVersion: Rev. E; PackageVersion: Rev. B, 06/2010; PackageReference: DE-14; PackageDescription: 14-Pin Plastic DFN, Body 4 x 3 mm, Pitch 0.5 mm; Supplier 1: Digi-Key; Supplier Part Number 1: LTC4263CDE#PBF-ND; Supplier 2: Farnell; Supplier Part Number 2: 2308576; Supplier 3: Newark; Supplier Part Number 3: 56M9166; PoE Type: 1; PSE/PD: PSE; RoHS: TRUE; Mounting Technology: Surface Mount; Code_JEDEC: MO-229; ComponentLink1Description: Manufacturer URL; ComponentLink1URL: http://www.linear.com/; ComponentLink2Description: Datasheet; ComponentLink2URL: http://cds.linear.com/docs/en/datasheet/4263fe.pdf; ComponentLink3Description: Package Specification; ComponentLink3URL: http://www.linear.com/docs/en/packaging/DFN_14_05-08-1708.pdf
footprint LT-DE-14_V (SON, 14-Leads, Body 4x3mm, Pitch 0.5mm, Thermal Pad 3.3x1.7mm)
pins: 1 LED (oc) "Port State LED Drive. This pin is an open drain output that pulls down when the port is powered. Under port fault conditions, the LED will fl ash in patterns to indicate the nature of the port fault. See the Applications (See Datasheet)", 2 LEGACY (in) "Legacy Detect. This pin controls whether legacy detect is enabled. If held at VDD5, legacy detect is enabled and testing for a large capacitor is performed to detect the presence of a legacy PD on the port.", 3 MIDSPAN (in) "Midspan Enable. If this pin is connected to VDD5, Midspan backoff is enabled and a 3.2 second delay occurs after every failed detect cycle unless the result is open circuit. If held at VSS, no delay occurs after failed (See Datasheet)", 4 PWRMGT (in) "Power Management. The LTC4263 sources current at the PWRMGT pin proportional to the class of the PD that it is powering.", 5 VSS (power) "Negative 48V Supply. Pins 5 and 6 should be tied together on the PCB.", 6 VSS (power) "Negative 48V Supply. Pins 5 and 6 should be tied together on the PCB.", 7 OSC "Oscillator for AC Disconnect. If AC disconnect is used, connect a 0.1uF X7R capacitor from OSC to VSS. Tie OSC to VSS to disable AC disconnect and enable DC disconnect.", 8 ACOUT "AC Disconnect Sense. Senses the port to determine whether a PD is still connected when in AC disconnect mode.", 9 OUT "Port Output. If DC disconnect is used, these pins are connected to the port. If AC disconnect is used, these pins are connected to the port through a parallel combination of a 1A diode and a 500k resistor. Pins 9 and 10 (See Datasheet)", 10 OUT "Port Output. If DC disconnect is used, these pins are connected to the port. If AC disconnect is used, these pins are connected to the port through a parallel combination of a 1A diode and a 500k resistor. Pins 9 and 10 (See Datasheet)", 11 VDD48 (power) "48V Return. Must be bypassed with a 0.1uF capacitor to VSS.", 12 ~{SD} (in) "Shutdown. If held low, the LTC4263 is prevented from performing detection or powering the port. Pulling S\D\ low will turn off the port if it is powered. When released, a 4-second delay will occur before detection is (See Datasheet)", 13 ENFCLS (in) "Enforce Class Current Limits. If held at VDD5, the LTC4263 will reduce the ICUT threshold for class 1 or class 2 PDs. If ENFCLS is held at VSS, ICUT remains at 375mA (typ) for all classes.", 14 VDD5 (power) "Logic Power Supply.", 15 EP (power) "VSS. Must be connected to VSS on the PCB. The Exposed Pad acts as a heatsink for the internal MOSFET."

## LTC4263CDE#TR
designator U?
Single IEEE 802.3af Compliant PSE Controller with Internal Switch, 14-pin SON (DE-14), 0 to 70 degC, Tape and Reel; Manufacturer: Linear Technology; PartNumber: LTC4263CDE#TR; Channels(#): 1; Extended Temp: C, I; I2C Interface: no; Max Power(W): 12.95; DatasheetVersion: Rev. E; PackageVersion: Rev. B, 06/2010; PackageReference: DE-14; PackageDescription: 14-Pin Plastic DFN, Body 4 x 3 mm, Pitch 0.5 mm; Packing: Tape and Reel; PoE Type: 1; PSE/PD: PSE; RoHS: FALSE; Mounting Technology: Surface Mount; Code_JEDEC: MO-229; ComponentLink1Description: Manufacturer URL; ComponentLink1URL: http://www.linear.com/; ComponentLink2Description: Datasheet; ComponentLink2URL: http://cds.linear.com/docs/en/datasheet/4263fe.pdf; ComponentLink3Description: Package Specification; ComponentLink3URL: http://www.linear.com/docs/en/packaging/DFN_14_05-08-1708.pdf
footprint LT-DE-14_V (SON, 14-Leads, Body 4x3mm, Pitch 0.5mm, Thermal Pad 3.3x1.7mm)
pins: 1 LED (oc) "Port State LED Drive. This pin is an open drain output that pulls down when the port is powered. Under port fault conditions, the LED will fl ash in patterns to indicate the nature of the port fault. See the Applications (See Datasheet)", 2 LEGACY (in) "Legacy Detect. This pin controls whether legacy detect is enabled. If held at VDD5, legacy detect is enabled and testing for a large capacitor is performed to detect the presence of a legacy PD on the port.", 3 MIDSPAN (in) "Midspan Enable. If this pin is connected to VDD5, Midspan backoff is enabled and a 3.2 second delay occurs after every failed detect cycle unless the result is open circuit. If held at VSS, no delay occurs after failed (See Datasheet)", 4 PWRMGT (in) "Power Management. The LTC4263 sources current at the PWRMGT pin proportional to the class of the PD that it is powering.", 5 VSS (power) "Negative 48V Supply. Pins 5 and 6 should be tied together on the PCB.", 6 VSS (power) "Negative 48V Supply. Pins 5 and 6 should be tied together on the PCB.", 7 OSC "Oscillator for AC Disconnect. If AC disconnect is used, connect a 0.1uF X7R capacitor from OSC to VSS. Tie OSC to VSS to disable AC disconnect and enable DC disconnect.", 8 ACOUT "AC Disconnect Sense. Senses the port to determine whether a PD is still connected when in AC disconnect mode.", 9 OUT "Port Output. If DC disconnect is used, these pins are connected to the port. If AC disconnect is used, these pins are connected to the port through a parallel combination of a 1A diode and a 500k resistor. Pins 9 and 10 (See Datasheet)", 10 OUT "Port Output. If DC disconnect is used, these pins are connected to the port. If AC disconnect is used, these pins are connected to the port through a parallel combination of a 1A diode and a 500k resistor. Pins 9 and 10 (See Datasheet)", 11 VDD48 (power) "48V Return. Must be bypassed with a 0.1uF capacitor to VSS.", 12 ~{SD} (in) "Shutdown. If held low, the LTC4263 is prevented from performing detection or powering the port. Pulling S\D\ low will turn off the port if it is powered. When released, a 4-second delay will occur before detection is (See Datasheet)", 13 ENFCLS (in) "Enforce Class Current Limits. If held at VDD5, the LTC4263 will reduce the ICUT threshold for class 1 or class 2 PDs. If ENFCLS is held at VSS, ICUT remains at 375mA (typ) for all classes.", 14 VDD5 (power) "Logic Power Supply.", 15 EP (power) "VSS. Must be connected to VSS on the PCB. The Exposed Pad acts as a heatsink for the internal MOSFET."